# EAGLE library part LIS2DH12 (library lis2dh12)
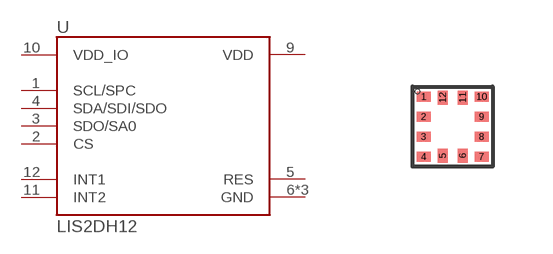
[diagram p0: symbol with the pads of LGA-12; footprint LGA-12]

Designator prefix U

## LIS2DH12  [LGA-12]
1  SCL/SPC  in
2  CS
3  SDO/SA0
4  SDA/SDI/SDO  in
5  RES  pwr
6  GND  pwr
7  GND  pwr
8  GND  pwr
9  VDD  pwr
10  VDD_IO  pwr
11  INT2  out
12  INT1  out

## Footprint LGA-12 (pad centres in mm)
LGA-16 3x3x1.1
smd 0.35 x 0.25: 1 -0.725,0.75; 2 -0.725,0.25; 3 -0.725,-0.25; 4 -0.725,-0.75; 7 0.725,-0.75; 8 0.725,-0.25; 9 0.725,0.25; 10 0.725,0.75
smd 0.25 x 0.35: 5 -0.25,-0.725; 6 0.25,-0.725; 11 0.25,0.725; 12 -0.25,0.725